# EAGLE library part LMP7721 (library custom_parts)
3fA input bias precision amplifier, National Semiconductor
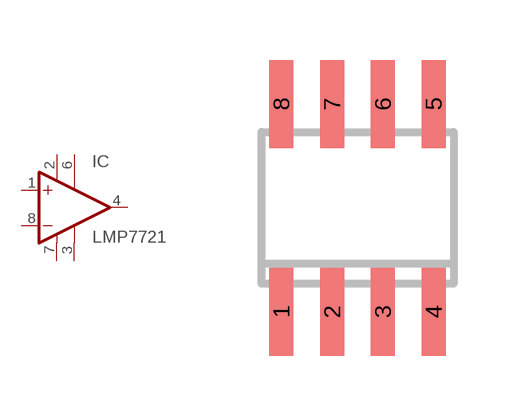
[diagram p11: symbol with the pads of SOIC8; footprint SOIC8]

Designator prefix IC

## LMP7721  [SOIC8]
1  +IN  in
2  GRD  pas
3  V-  pwr
4  OUT  out
6  V+  pwr
7  GRD2  pas
8  -IN  in

## Footprint SOIC8 (pad centres in mm)
Small Outline IC
smd 0.6 x 2.2: 1 -1.905,-2.6; 2 -0.635,-2.6; 3 0.635,-2.6; 4 1.905,-2.6; 5 1.905,2.6; 6 0.635,2.6; 7 -0.635,2.6; 8 -1.905,2.6